# EAGLE library part MCP6022-I/SN (library cpsmv)
IC OPAMP 2.5V DUAL R-R
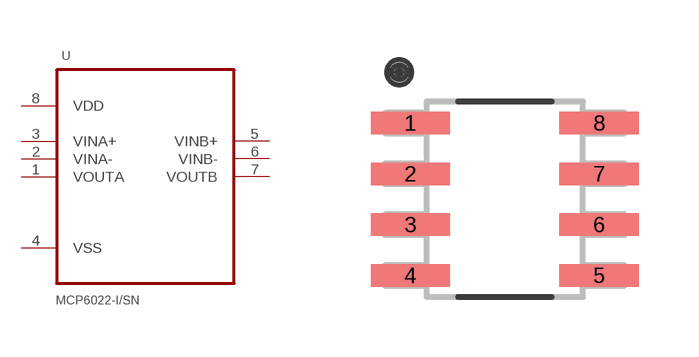
[diagram p9: symbol with the pads of SOIC127P600X175-8N; footprint SOIC127P600X175-8N]

Designator prefix U

## MCP6022-I/SN (DATASHEET_LINK: http://ww1.microchip.com/downloads/en/DeviceDoc/21685d.pdf; MANUFACTURER: Microchip; MANUFACTURER_PN: MCP6022-I/SN; PACKAGE: SOIC-8; SUPPLIER: Digi-Key; SUPPLIER_PN: MCP6022-I/SN-ND)  [SOIC127P600X175-8N]
1  VOUTA  out
2  VINA-  in
3  VINA+  in
4  VSS  pas
5  VINB+  in
6  VINB-  in
7  VOUTB  out
8  VDD  pwr

## Footprint SOIC127P600X175-8N (pad centres in mm)
smd 1.981 x 0.559: 1 -2.362,1.905; 2 -2.362,0.635; 3 -2.362,-0.635; 4 -2.362,-1.905; 5 2.362,-1.905; 6 2.362,-0.635; 7 2.362,0.635; 8 2.362,1.905